# Altium schematic symbol library ASM1352R.SchLib: 1 symbol
Pins are listed as number, name and electrical type; pins without a type are passive.

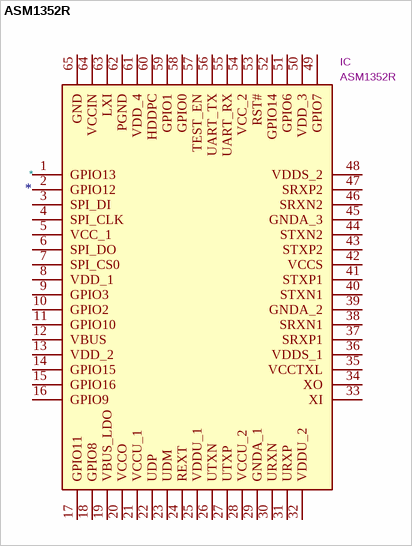
[diagram p0: symbol ASM1352R]

## ASM1352R
designator *  value ASM1352R  Reference: IC
Manufacturer_Name: ASMEDIA TECHNOLOGY INC; ki_description: Green Package 8x8 QFN 64L (PL-free); Footprint: QFN40P800X800X90-65N-D; Datasheet: https://gzhls.at/blob/ldb/b/6/2/4/1582173b84f0fccf69327de3a422d6afd8b5.pdf; Height: 0.9; Manufacturer_Part_Number: ASM1352R
pins: 1 GPIO13, 2 GPIO12, 3 SPI_DI, 4 SPI_CLK, 5 VCC_1, 6 SPI_DO, 7 SPI_CS0, 8 VDD_1, 9 GPIO3, 10 GPIO2, 11 GPIO10, 12 VBUS, 13 VDD_2, 14 GPIO15, 15 GPIO16, 16 GPIO9, 17 GPIO11, 18 GPIO8, 19 VBUS_LDO, 20 VCCO, 21 VCCU_1, 22 UDP, 23 UDM, 24 REXT, 25 VDDU_1, 26 UTXN, 27 UTXP, 28 VCCU_2, 29 GNDA_1, 30 URXN, 31 URXP, 32 VDDU_2, 33 XI, 34 XO, 35 VCCTXL, 36 VDDS_1, 37 SRXP1, 38 SRXN1, 39 GNDA_2, 40 STXN1, 41 STXP1, 42 VCCS, 43 STXP2, 44 STXN2, 45 GNDA_3, 46 SRXN2, 47 SRXP2, 48 VDDS_2, 49 GPIO7, 50 VDD_3, 51 GPIO6, 52 GPIO14, 53 RST#, 54 VCC_2, 55 UART_RX, 56 UART_TX, 57 TEST_EN, 58 GPIO0, 59 GPIO1, 60 HDDPC, 61 VDD_4, 62 PGND, 63 LXI, 64 VCCIN, 65 GND